# Altium integrated library Linear Technology Power Management Hot Swap Controllers.IntLib: 992 symbols (part 24 of 93)
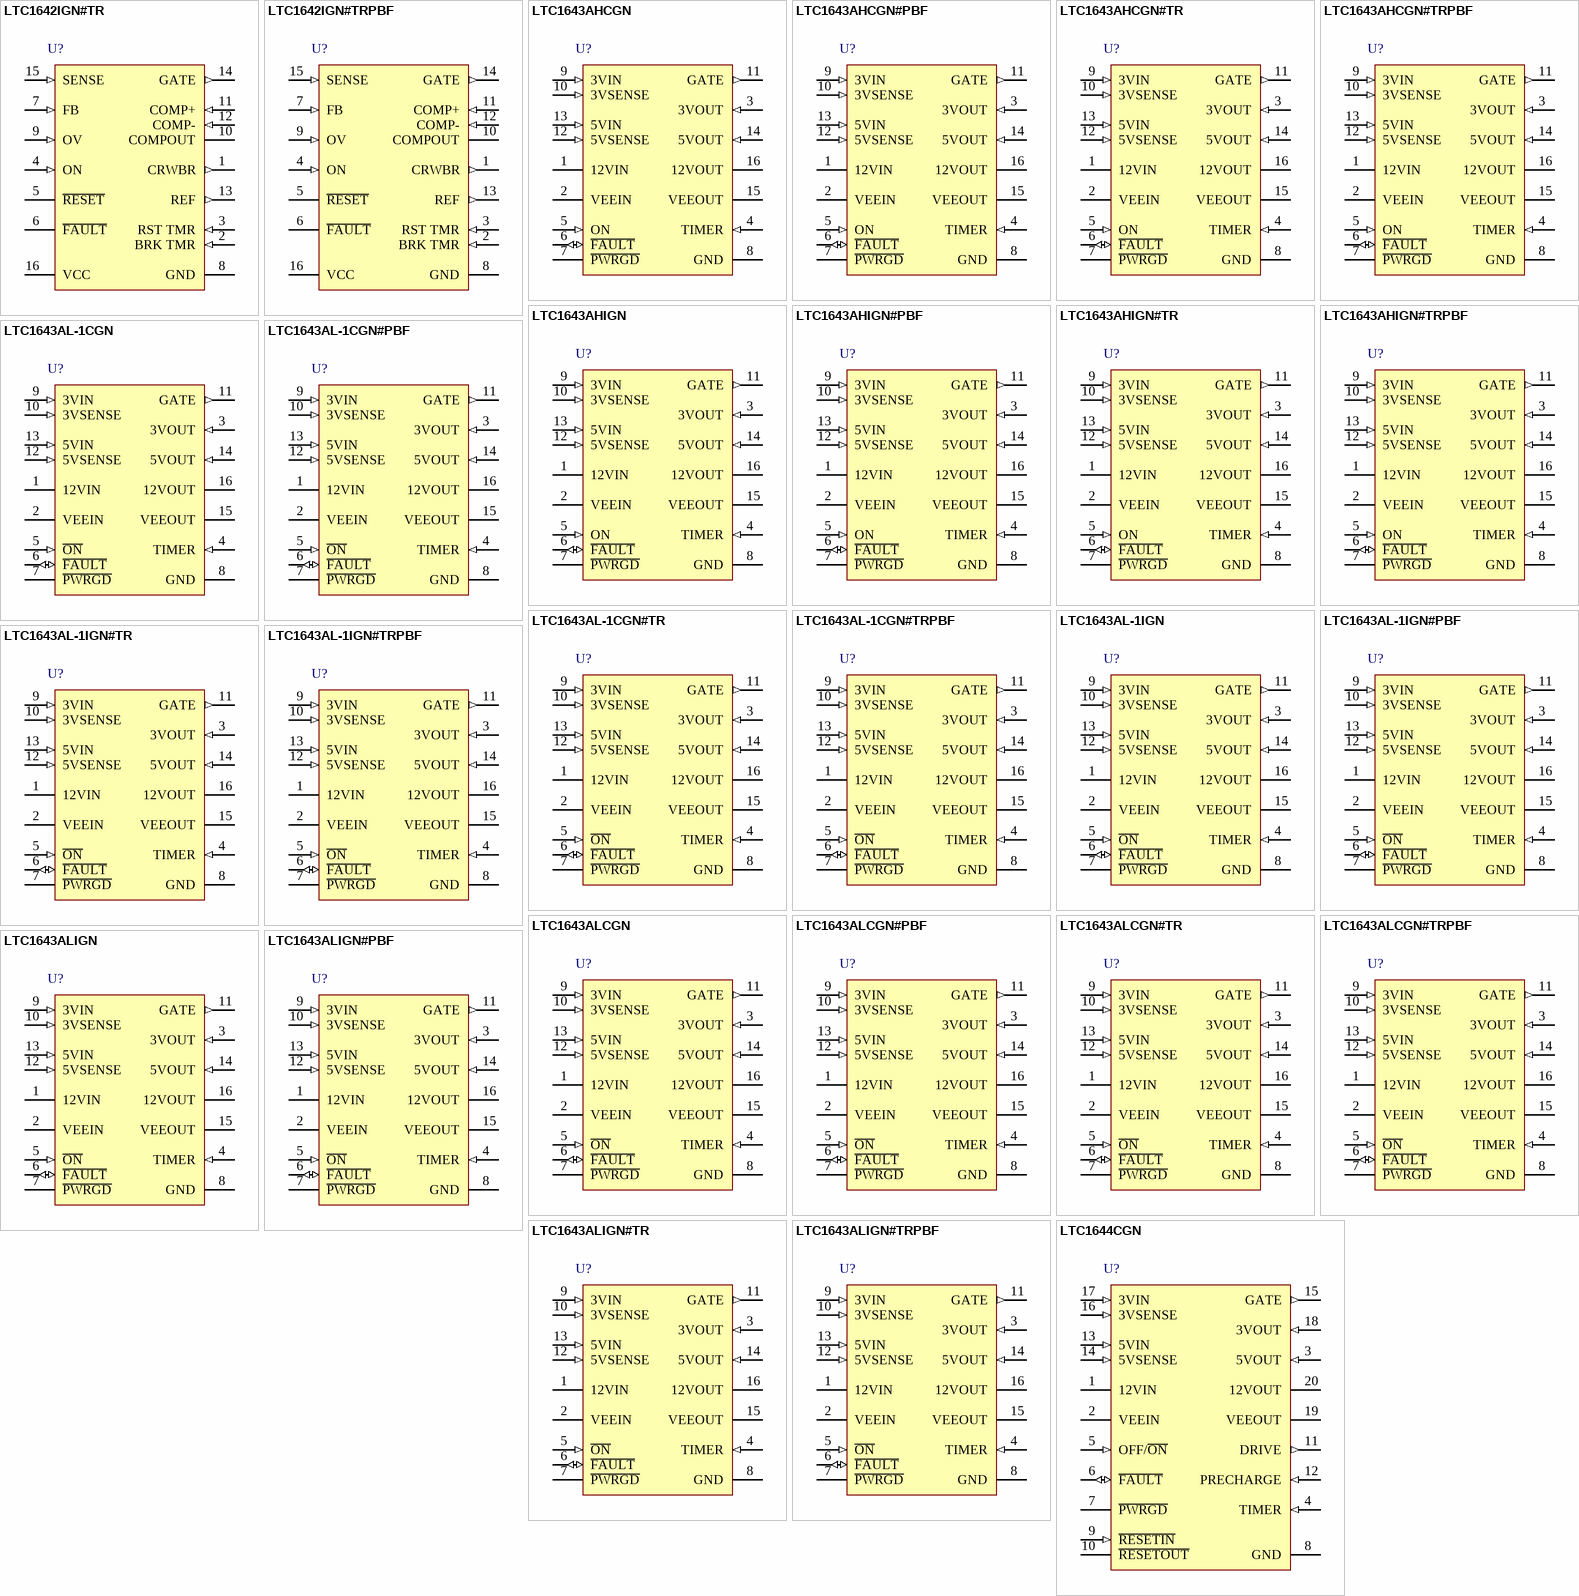
[diagram p60: symbols LTC1642IGN#TR to LTC1644CGN]

## LTC1643ALCGN
designator U?
PCI-Bus Hot Swap Controller, 3.3 V, 5 V, +/-12 V Vin, 16-pin SOP (GN-16), 0 to 70 degC; Manufacturer: Linear Technology; PartNumber: LTC1643ALCGN; Active Limiting: yes; Circuit Breaker Accuracy(%): 24.5; Circuit Breaker Threshold: 53 mV; Circuit Breakers(#): 4; Extended Temp: C, I; Fast Comparator: no; In-Rush Current: Active; DatasheetVersion: Rev. B; PackageVersion: Rev. B, 03/2012; PackageReference: GN-16; PackageDescription: 16-Pin Plastic SSOP, Body 4.9 x 3.9 mm, Pitch 0.635 mm; Supplier 1: Digi-Key; Supplier Part Number 1: LTC1643ALCGN-ND; Fault: yes; Foldback: yes; Power Good: yes; Reset: no; RoHS: FALSE; Vin Range: 3.3 V, 5 V, +/-12 V; Mounting Technology: Surface Mount; ComponentLink1Description: Manufacturer URL; ComponentLink1URL: http://www.linear.com/; ComponentLink2Description: Datasheet; ComponentLink2URL: http://cds.linear.com/docs/en/datasheet/1643afb.pdf; ComponentLink3Description: Package Specification; ComponentLink3URL: http://cds.linear.com/docs/en/packaging/05081641_B_GN16.pdf
footprint LT-GN-16_N (SOP, 16-Leads, Body 5x4mm, Pitch 0.635mm, IPC Medium Density)
footprint LT-GN-16_L (SOP, 16-Leads, Body 5x4mm, Pitch 0.635mm, IPC High Density)
footprint LT-GN-16_M (SOP, 16-Leads, Body 5x4mm, Pitch 0.635mm, IPC Low Density)
pins: 1 12VIN (power) "12V Supply Input. It powers all the chip's internal circuitry. A 0.5ohm switch is connected between 12VIN and 12VOUT with a foldback current limit. An undervoltage lockout circuit prevents the switches from turning o(See Datasheet)", 2 VEEIN (power) "-12V Supply Input. A 1.2ohm switch is connected between VEEIN and VEEOUT with a foldback current limit.", 3 3VOUT (in) "Analog Input. Used to monitor the 3.3V output supply voltage. The P\W\R\G\D\ signal cannot go low until the 3VOUT pin exceeds 2.9V typically.", 4 TIMER (in) "Analog Current Fault Inhibit Timing Input. Connect a capacitor from TIMER to GND. With the chip turned off (ON = GND or O\N\ = High) or the internal circuit breaker tripped (F\A\U\L\T\ = GND), the TIMER pin is internally (See Datasheet)", 5 ~{ON} (in) "Digital Input.The LTC1643AL/LTC1643AL-1 have an active low enable, O\N\, and the LTC1643AH has an active high enable, ON. When the ON pin is pulled high or the O\N\ pin pulled low, the GATE pin is pulled high by a 62uA (See Datasheet)", 6 ~{FAULT} (io) "Open-Drain Digital I/O. F\A\U\L\T\ is pulled low when a current limit fault is detected. Current limit faults are ignored while the voltage at the TIMER pin is less than 12VIN - 0.9V. Once the TIMER cycle is complete, (See Datasheet)", 7 ~{PWRGD} (oc) "Open-Drain Digital Power-Good Output. P\W\R\G\D\ remains low while V12VOUT>= 11.4V, V3VOUT>= 3V, V5VOUT >= 4.75V and VEEOUT =< -10.8V. The LTC1643AL-1 has the power good comparators connected to the 12VOUT and VEEOUT pins (See Datasheet)", 8 GND (power) "Chip Ground.", 9 3VIN (in) "3.3V Supply Sense Input. An undervoltage lockout circuit prevents the switches from turning on when the voltage at the 3VIN pin is less than 2.5V typically. If no 3.3V input supply is available, tie 3VIN to the 5VIN pin.", 10 3VSENSE (in) "The 3.3V Current Limit Set Pin. With a sense resistor placed in the supply path between 3VIN and 3VSENSE, the GATE pin voltage will be adjusted to maintain a constant voltage across the sense resistor and a constant current (See Datasheet)", 11 GATE (out) "High Side Gate Drive for the External N-Channel Pass Transistors. Requires an external series RC network for the current limit loop compensation and setting the minimum ramp-up rate. During power-up, the slope of the voltage (See Datasheet)", 12 5VSENSE (in) "5V Current Limit Set Pin. With a sense resistor placed in the supply path between 5VIN and 5VSENSE, the GATE pin voltage will be adjusted to maintain a constant voltage across the sense resistor and a constant current (See Datasheet)", 13 5VIN (in) "Analog Input. Used to monitor the 5V input supply voltage. An undervoltage lockout circuit prevents the switches from turning on when the voltage at the 5VIN pin is less than 2.5V typically.", 14 5VOUT (in) "Analog Input. Used to monitor the 5V output supply voltage. The P\W\R\G\D\ signal cannot go low until the 5VOUT pin exceeds 4.65V typically.", 15 VEEOUT (power) "-12V Supply Output. A 1.2ohm switch is connected between VEEIN and VEEOUT. VEEOUT must exceed -10.8V before the P\W\R\G\D\ signal can go high on the LTC1643AH and LTC1643AL.", 16 12VOUT (power) "12V Supply Output. A 0.5ohm switch is connected between 12VIN and 12VOUT. 12VOUT must exceed 11.4V before the P\W\R\G\D\ signal can go high on the LTC1643AH and LTC1643AL."

## LTC1643ALCGN#PBF
designator U?
PCI-Bus Hot Swap Controller, 3.3 V, 5 V, +/-12 V Vin, 16-pin SOP (GN-16), 0 to 70 degC, Pb-Free; Manufacturer: Linear Technology; PartNumber: LTC1643ALCGN#PBF; Active Limiting: yes; Circuit Breaker Accuracy(%): 24.5; Circuit Breaker Threshold: 53 mV; Circuit Breakers(#): 4; Extended Temp: C, I; Fast Comparator: no; In-Rush Current: Active; DatasheetVersion: Rev. B; PackageVersion: Rev. B, 03/2012; PackageReference: GN-16; PackageDescription: 16-Pin Plastic SSOP, Body 4.9 x 3.9 mm, Pitch 0.635 mm; Supplier 1: Digi-Key; Supplier Part Number 1: LTC1643ALCGN#PBF-ND; Supplier 2: Farnell; Supplier Part Number 2: 2308569; Supplier 3: Newark; Supplier Part Number 3: 56M2801; Fault: yes; Foldback: yes; Power Good: yes; Reset: no; RoHS: TRUE; Vin Range: 3.3 V, 5 V, +/-12 V; Mounting Technology: Surface Mount; ComponentLink1Description: Manufacturer URL; ComponentLink1URL: http://www.linear.com/; ComponentLink2Description: Datasheet; ComponentLink2URL: http://cds.linear.com/docs/en/datasheet/1643afb.pdf; ComponentLink3Description: Package Specification; ComponentLink3URL: http://cds.linear.com/docs/en/packaging/05081641_B_GN16.pdf
footprint LT-GN-16_N (SOP, 16-Leads, Body 5x4mm, Pitch 0.635mm, IPC Medium Density)
footprint LT-GN-16_L (SOP, 16-Leads, Body 5x4mm, Pitch 0.635mm, IPC High Density)
footprint LT-GN-16_M (SOP, 16-Leads, Body 5x4mm, Pitch 0.635mm, IPC Low Density)
pins: 1 12VIN (power) "12V Supply Input. It powers all the chip's internal circuitry. A 0.5ohm switch is connected between 12VIN and 12VOUT with a foldback current limit. An undervoltage lockout circuit prevents the switches from turning o(See Datasheet)", 2 VEEIN (power) "-12V Supply Input. A 1.2ohm switch is connected between VEEIN and VEEOUT with a foldback current limit.", 3 3VOUT (in) "Analog Input. Used to monitor the 3.3V output supply voltage. The P\W\R\G\D\ signal cannot go low until the 3VOUT pin exceeds 2.9V typically.", 4 TIMER (in) "Analog Current Fault Inhibit Timing Input. Connect a capacitor from TIMER to GND. With the chip turned off (ON = GND or O\N\ = High) or the internal circuit breaker tripped (F\A\U\L\T\ = GND), the TIMER pin is internally (See Datasheet)", 5 ~{ON} (in) "Digital Input.The LTC1643AL/LTC1643AL-1 have an active low enable, O\N\, and the LTC1643AH has an active high enable, ON. When the ON pin is pulled high or the O\N\ pin pulled low, the GATE pin is pulled high by a 62uA (See Datasheet)", 6 ~{FAULT} (io) "Open-Drain Digital I/O. F\A\U\L\T\ is pulled low when a current limit fault is detected. Current limit faults are ignored while the voltage at the TIMER pin is less than 12VIN - 0.9V. Once the TIMER cycle is complete, (See Datasheet)", 7 ~{PWRGD} (oc) "Open-Drain Digital Power-Good Output. P\W\R\G\D\ remains low while V12VOUT>= 11.4V, V3VOUT>= 3V, V5VOUT >= 4.75V and VEEOUT =< -10.8V. The LTC1643AL-1 has the power good comparators connected to the 12VOUT and VEEOUT pins (See Datasheet)", 8 GND (power) "Chip Ground.", 9 3VIN (in) "3.3V Supply Sense Input. An undervoltage lockout circuit prevents the switches from turning on when the voltage at the 3VIN pin is less than 2.5V typically. If no 3.3V input supply is available, tie 3VIN to the 5VIN pin.", 10 3VSENSE (in) "The 3.3V Current Limit Set Pin. With a sense resistor placed in the supply path between 3VIN and 3VSENSE, the GATE pin voltage will be adjusted to maintain a constant voltage across the sense resistor and a constant current (See Datasheet)", 11 GATE (out) "High Side Gate Drive for the External N-Channel Pass Transistors. Requires an external series RC network for the current limit loop compensation and setting the minimum ramp-up rate. During power-up, the slope of the voltage (See Datasheet)", 12 5VSENSE (in) "5V Current Limit Set Pin. With a sense resistor placed in the supply path between 5VIN and 5VSENSE, the GATE pin voltage will be adjusted to maintain a constant voltage across the sense resistor and a constant current (See Datasheet)", 13 5VIN (in) "Analog Input. Used to monitor the 5V input supply voltage. An undervoltage lockout circuit prevents the switches from turning on when the voltage at the 5VIN pin is less than 2.5V typically.", 14 5VOUT (in) "Analog Input. Used to monitor the 5V output supply voltage. The P\W\R\G\D\ signal cannot go low until the 5VOUT pin exceeds 4.65V typically.", 15 VEEOUT (power) "-12V Supply Output. A 1.2ohm switch is connected between VEEIN and VEEOUT. VEEOUT must exceed -10.8V before the P\W\R\G\D\ signal can go high on the LTC1643AH and LTC1643AL.", 16 12VOUT (power) "12V Supply Output. A 0.5ohm switch is connected between 12VIN and 12VOUT. 12VOUT must exceed 11.4V before the P\W\R\G\D\ signal can go high on the LTC1643AH and LTC1643AL."

## LTC1643ALCGN#TR
designator U?
PCI-Bus Hot Swap Controller, 3.3 V, 5 V, +/-12 V Vin, 16-pin SOP (GN-16), 0 to 70 degC, Tape and Reel; Manufacturer: Linear Technology; PartNumber: LTC1643ALCGN#TR; Active Limiting: yes; Circuit Breaker Accuracy(%): 24.5; Circuit Breaker Threshold: 53 mV; Circuit Breakers(#): 4; Extended Temp: C, I; Fast Comparator: no; In-Rush Current: Active; DatasheetVersion: Rev. B; PackageVersion: Rev. B, 03/2012; PackageReference: GN-16; PackageDescription: 16-Pin Plastic SSOP, Body 4.9 x 3.9 mm, Pitch 0.635 mm; Supplier 1: Digi-Key; Supplier Part Number 1: LTC1643ALCGN#TR-ND; Fault: yes; Foldback: yes; Packing: Tape and Reel; Power Good: yes; Reset: no; RoHS: FALSE; Vin Range: 3.3 V, 5 V, +/-12 V; Mounting Technology: Surface Mount; ComponentLink1Description: Manufacturer URL; ComponentLink1URL: http://www.linear.com/; ComponentLink2Description: Datasheet; ComponentLink2URL: http://cds.linear.com/docs/en/datasheet/1643afb.pdf; ComponentLink3Description: Package Specification; ComponentLink3URL: http://cds.linear.com/docs/en/packaging/05081641_B_GN16.pdf
footprint LT-GN-16_N (SOP, 16-Leads, Body 5x4mm, Pitch 0.635mm, IPC Medium Density)
footprint LT-GN-16_L (SOP, 16-Leads, Body 5x4mm, Pitch 0.635mm, IPC High Density)
footprint LT-GN-16_M (SOP, 16-Leads, Body 5x4mm, Pitch 0.635mm, IPC Low Density)
pins: 1 12VIN (power) "12V Supply Input. It powers all the chip's internal circuitry. A 0.5ohm switch is connected between 12VIN and 12VOUT with a foldback current limit. An undervoltage lockout circuit prevents the switches from turning o(See Datasheet)", 2 VEEIN (power) "-12V Supply Input. A 1.2ohm switch is connected between VEEIN and VEEOUT with a foldback current limit.", 3 3VOUT (in) "Analog Input. Used to monitor the 3.3V output supply voltage. The P\W\R\G\D\ signal cannot go low until the 3VOUT pin exceeds 2.9V typically.", 4 TIMER (in) "Analog Current Fault Inhibit Timing Input. Connect a capacitor from TIMER to GND. With the chip turned off (ON = GND or O\N\ = High) or the internal circuit breaker tripped (F\A\U\L\T\ = GND), the TIMER pin is internally (See Datasheet)", 5 ~{ON} (in) "Digital Input.The LTC1643AL/LTC1643AL-1 have an active low enable, O\N\, and the LTC1643AH has an active high enable, ON. When the ON pin is pulled high or the O\N\ pin pulled low, the GATE pin is pulled high by a 62uA (See Datasheet)", 6 ~{FAULT} (io) "Open-Drain Digital I/O. F\A\U\L\T\ is pulled low when a current limit fault is detected. Current limit faults are ignored while the voltage at the TIMER pin is less than 12VIN - 0.9V. Once the TIMER cycle is complete, (See Datasheet)", 7 ~{PWRGD} (oc) "Open-Drain Digital Power-Good Output. P\W\R\G\D\ remains low while V12VOUT>= 11.4V, V3VOUT>= 3V, V5VOUT >= 4.75V and VEEOUT =< -10.8V. The LTC1643AL-1 has the power good comparators connected to the 12VOUT and VEEOUT pins (See Datasheet)", 8 GND (power) "Chip Ground.", 9 3VIN (in) "3.3V Supply Sense Input. An undervoltage lockout circuit prevents the switches from turning on when the voltage at the 3VIN pin is less than 2.5V typically. If no 3.3V input supply is available, tie 3VIN to the 5VIN pin.", 10 3VSENSE (in) "The 3.3V Current Limit Set Pin. With a sense resistor placed in the supply path between 3VIN and 3VSENSE, the GATE pin voltage will be adjusted to maintain a constant voltage across the sense resistor and a constant current (See Datasheet)", 11 GATE (out) "High Side Gate Drive for the External N-Channel Pass Transistors. Requires an external series RC network for the current limit loop compensation and setting the minimum ramp-up rate. During power-up, the slope of the voltage (See Datasheet)", 12 5VSENSE (in) "5V Current Limit Set Pin. With a sense resistor placed in the supply path between 5VIN and 5VSENSE, the GATE pin voltage will be adjusted to maintain a constant voltage across the sense resistor and a constant current (See Datasheet)", 13 5VIN (in) "Analog Input. Used to monitor the 5V input supply voltage. An undervoltage lockout circuit prevents the switches from turning on when the voltage at the 5VIN pin is less than 2.5V typically.", 14 5VOUT (in) "Analog Input. Used to monitor the 5V output supply voltage. The P\W\R\G\D\ signal cannot go low until the 5VOUT pin exceeds 4.65V typically.", 15 VEEOUT (power) "-12V Supply Output. A 1.2ohm switch is connected between VEEIN and VEEOUT. VEEOUT must exceed -10.8V before the P\W\R\G\D\ signal can go high on the LTC1643AH and LTC1643AL.", 16 12VOUT (power) "12V Supply Output. A 0.5ohm switch is connected between 12VIN and 12VOUT. 12VOUT must exceed 11.4V before the P\W\R\G\D\ signal can go high on the LTC1643AH and LTC1643AL."

## LTC1643ALCGN#TRPBF
designator U?
PCI-Bus Hot Swap Controller, 3.3 V, 5 V, +/-12 V Vin, 16-pin SOP (GN-16), 0 to 70 degC, Pb-Free, Tape and Reel; Manufacturer: Linear Technology; PartNumber: LTC1643ALCGN#TRPBF; Active Limiting: yes; Circuit Breaker Accuracy(%): 24.5; Circuit Breaker Threshold: 53 mV; Circuit Breakers(#): 4; Extended Temp: C, I; Fast Comparator: no; In-Rush Current: Active; DatasheetVersion: Rev. B; PackageVersion: Rev. B, 03/2012; PackageReference: GN-16; PackageDescription: 16-Pin Plastic SSOP, Body 4.9 x 3.9 mm, Pitch 0.635 mm; Supplier 1: Digi-Key; Supplier Part Number 1: LTC1643ALCGN#TRPBF-ND; Fault: yes; Foldback: yes; Packing: Tape and Reel; Power Good: yes; Reset: no; RoHS: TRUE; Vin Range: 3.3 V, 5 V, +/-12 V; Mounting Technology: Surface Mount; ComponentLink1Description: Manufacturer URL; ComponentLink1URL: http://www.linear.com/; ComponentLink2Description: Datasheet; ComponentLink2URL: http://cds.linear.com/docs/en/datasheet/1643afb.pdf; ComponentLink3Description: Package Specification; ComponentLink3URL: http://cds.linear.com/docs/en/packaging/05081641_B_GN16.pdf
footprint LT-GN-16_N (SOP, 16-Leads, Body 5x4mm, Pitch 0.635mm, IPC Medium Density)
footprint LT-GN-16_L (SOP, 16-Leads, Body 5x4mm, Pitch 0.635mm, IPC High Density)
footprint LT-GN-16_M (SOP, 16-Leads, Body 5x4mm, Pitch 0.635mm, IPC Low Density)
pins: 1 12VIN (power) "12V Supply Input. It powers all the chip's internal circuitry. A 0.5ohm switch is connected between 12VIN and 12VOUT with a foldback current limit. An undervoltage lockout circuit prevents the switches from turning o(See Datasheet)", 2 VEEIN (power) "-12V Supply Input. A 1.2ohm switch is connected between VEEIN and VEEOUT with a foldback current limit.", 3 3VOUT (in) "Analog Input. Used to monitor the 3.3V output supply voltage. The P\W\R\G\D\ signal cannot go low until the 3VOUT pin exceeds 2.9V typically.", 4 TIMER (in) "Analog Current Fault Inhibit Timing Input. Connect a capacitor from TIMER to GND. With the chip turned off (ON = GND or O\N\ = High) or the internal circuit breaker tripped (F\A\U\L\T\ = GND), the TIMER pin is internally (See Datasheet)", 5 ~{ON} (in) "Digital Input.The LTC1643AL/LTC1643AL-1 have an active low enable, O\N\, and the LTC1643AH has an active high enable, ON. When the ON pin is pulled high or the O\N\ pin pulled low, the GATE pin is pulled high by a 62uA (See Datasheet)", 6 ~{FAULT} (io) "Open-Drain Digital I/O. F\A\U\L\T\ is pulled low when a current limit fault is detected. Current limit faults are ignored while the voltage at the TIMER pin is less than 12VIN - 0.9V. Once the TIMER cycle is complete, (See Datasheet)", 7 ~{PWRGD} (oc) "Open-Drain Digital Power-Good Output. P\W\R\G\D\ remains low while V12VOUT>= 11.4V, V3VOUT>= 3V, V5VOUT >= 4.75V and VEEOUT =< -10.8V. The LTC1643AL-1 has the power good comparators connected to the 12VOUT and VEEOUT pins (See Datasheet)", 8 GND (power) "Chip Ground.", 9 3VIN (in) "3.3V Supply Sense Input. An undervoltage lockout circuit prevents the switches from turning on when the voltage at the 3VIN pin is less than 2.5V typically. If no 3.3V input supply is available, tie 3VIN to the 5VIN pin.", 10 3VSENSE (in) "The 3.3V Current Limit Set Pin. With a sense resistor placed in the supply path between 3VIN and 3VSENSE, the GATE pin voltage will be adjusted to maintain a constant voltage across the sense resistor and a constant current (See Datasheet)", 11 GATE (out) "High Side Gate Drive for the External N-Channel Pass Transistors. Requires an external series RC network for the current limit loop compensation and setting the minimum ramp-up rate. During power-up, the slope of the voltage (See Datasheet)", 12 5VSENSE (in) "5V Current Limit Set Pin. With a sense resistor placed in the supply path between 5VIN and 5VSENSE, the GATE pin voltage will be adjusted to maintain a constant voltage across the sense resistor and a constant current (See Datasheet)", 13 5VIN (in) "Analog Input. Used to monitor the 5V input supply voltage. An undervoltage lockout circuit prevents the switches from turning on when the voltage at the 5VIN pin is less than 2.5V typically.", 14 5VOUT (in) "Analog Input. Used to monitor the 5V output supply voltage. The P\W\R\G\D\ signal cannot go low until the 5VOUT pin exceeds 4.65V typically.", 15 VEEOUT (power) "-12V Supply Output. A 1.2ohm switch is connected between VEEIN and VEEOUT. VEEOUT must exceed -10.8V before the P\W\R\G\D\ signal can go high on the LTC1643AH and LTC1643AL.", 16 12VOUT (power) "12V Supply Output. A 0.5ohm switch is connected between 12VIN and 12VOUT. 12VOUT must exceed 11.4V before the P\W\R\G\D\ signal can go high on the LTC1643AH and LTC1643AL."

## LTC1643ALIGN
designator U?
PCI-Bus Hot Swap Controller, 3.3 V, 5 V, +/-12 V Vin, 16-pin SOP (GN-16), -40 to 85 degC; Manufacturer: Linear Technology; PartNumber: LTC1643ALIGN; Active Limiting: yes; Circuit Breaker Accuracy(%): 24.5; Circuit Breaker Threshold: 53 mV; Circuit Breakers(#): 4; Extended Temp: C, I; Fast Comparator: no; In-Rush Current: Active; DatasheetVersion: Rev. B; PackageVersion: Rev. B, 03/2012; PackageReference: GN-16; PackageDescription: 16-Pin Plastic SSOP, Body 4.9 x 3.9 mm, Pitch 0.635 mm; Supplier 1: Digi-Key; Supplier Part Number 1: LTC1643ALIGN-ND; Fault: yes; Foldback: yes; Power Good: yes; Reset: no; RoHS: FALSE; Vin Range: 3.3 V, 5 V, +/-12 V; Mounting Technology: Surface Mount; ComponentLink1Description: Manufacturer URL; ComponentLink1URL: http://www.linear.com/; ComponentLink2Description: Datasheet; ComponentLink2URL: http://cds.linear.com/docs/en/datasheet/1643afb.pdf; ComponentLink3Description: Package Specification; ComponentLink3URL: http://cds.linear.com/docs/en/packaging/05081641_B_GN16.pdf
footprint LT-GN-16_N (SOP, 16-Leads, Body 5x4mm, Pitch 0.635mm, IPC Medium Density)
footprint LT-GN-16_L (SOP, 16-Leads, Body 5x4mm, Pitch 0.635mm, IPC High Density)
footprint LT-GN-16_M (SOP, 16-Leads, Body 5x4mm, Pitch 0.635mm, IPC Low Density)
pins: 1 12VIN (power) "12V Supply Input. It powers all the chip's internal circuitry. A 0.5ohm switch is connected between 12VIN and 12VOUT with a foldback current limit. An undervoltage lockout circuit prevents the switches from turning o(See Datasheet)", 2 VEEIN (power) "-12V Supply Input. A 1.2ohm switch is connected between VEEIN and VEEOUT with a foldback current limit.", 3 3VOUT (in) "Analog Input. Used to monitor the 3.3V output supply voltage. The P\W\R\G\D\ signal cannot go low until the 3VOUT pin exceeds 2.9V typically.", 4 TIMER (in) "Analog Current Fault Inhibit Timing Input. Connect a capacitor from TIMER to GND. With the chip turned off (ON = GND or O\N\ = High) or the internal circuit breaker tripped (F\A\U\L\T\ = GND), the TIMER pin is internally (See Datasheet)", 5 ~{ON} (in) "Digital Input.The LTC1643AL/LTC1643AL-1 have an active low enable, O\N\, and the LTC1643AH has an active high enable, ON. When the ON pin is pulled high or the O\N\ pin pulled low, the GATE pin is pulled high by a 62uA (See Datasheet)", 6 ~{FAULT} (io) "Open-Drain Digital I/O. F\A\U\L\T\ is pulled low when a current limit fault is detected. Current limit faults are ignored while the voltage at the TIMER pin is less than 12VIN - 0.9V. Once the TIMER cycle is complete, (See Datasheet)", 7 ~{PWRGD} (oc) "Open-Drain Digital Power-Good Output. P\W\R\G\D\ remains low while V12VOUT>= 11.4V, V3VOUT>= 3V, V5VOUT >= 4.75V and VEEOUT =< -10.8V. The LTC1643AL-1 has the power good comparators connected to the 12VOUT and VEEOUT pins (See Datasheet)", 8 GND (power) "Chip Ground.", 9 3VIN (in) "3.3V Supply Sense Input. An undervoltage lockout circuit prevents the switches from turning on when the voltage at the 3VIN pin is less than 2.5V typically. If no 3.3V input supply is available, tie 3VIN to the 5VIN pin.", 10 3VSENSE (in) "The 3.3V Current Limit Set Pin. With a sense resistor placed in the supply path between 3VIN and 3VSENSE, the GATE pin voltage will be adjusted to maintain a constant voltage across the sense resistor and a constant current (See Datasheet)", 11 GATE (out) "High Side Gate Drive for the External N-Channel Pass Transistors. Requires an external series RC network for the current limit loop compensation and setting the minimum ramp-up rate. During power-up, the slope of the voltage (See Datasheet)", 12 5VSENSE (in) "5V Current Limit Set Pin. With a sense resistor placed in the supply path between 5VIN and 5VSENSE, the GATE pin voltage will be adjusted to maintain a constant voltage across the sense resistor and a constant current (See Datasheet)", 13 5VIN (in) "Analog Input. Used to monitor the 5V input supply voltage. An undervoltage lockout circuit prevents the switches from turning on when the voltage at the 5VIN pin is less than 2.5V typically.", 14 5VOUT (in) "Analog Input. Used to monitor the 5V output supply voltage. The P\W\R\G\D\ signal cannot go low until the 5VOUT pin exceeds 4.65V typically.", 15 VEEOUT (power) "-12V Supply Output. A 1.2ohm switch is connected between VEEIN and VEEOUT. VEEOUT must exceed -10.8V before the P\W\R\G\D\ signal can go high on the LTC1643AH and LTC1643AL.", 16 12VOUT (power) "12V Supply Output. A 0.5ohm switch is connected between 12VIN and 12VOUT. 12VOUT must exceed 11.4V before the P\W\R\G\D\ signal can go high on the LTC1643AH and LTC1643AL."

## LTC1643ALIGN#PBF
designator U?
PCI-Bus Hot Swap Controller, 3.3 V, 5 V, +/-12 V Vin, 16-pin SOP (GN-16), -40 to 85 degC, Pb-Free; Manufacturer: Linear Technology; PartNumber: LTC1643ALIGN#PBF; Active Limiting: yes; Circuit Breaker Accuracy(%): 24.5; Circuit Breaker Threshold: 53 mV; Circuit Breakers(#): 4; Extended Temp: C, I; Fast Comparator: no; In-Rush Current: Active; DatasheetVersion: Rev. B; PackageVersion: Rev. B, 03/2012; PackageReference: GN-16; PackageDescription: 16-Pin Plastic SSOP, Body 4.9 x 3.9 mm, Pitch 0.635 mm; Supplier 1: Digi-Key; Supplier Part Number 1: LTC1643ALIGN#PBF-ND; Fault: yes; Foldback: yes; Power Good: yes; Reset: no; RoHS: TRUE; Vin Range: 3.3 V, 5 V, +/-12 V; Mounting Technology: Surface Mount; ComponentLink1Description: Manufacturer URL; ComponentLink1URL: http://www.linear.com/; ComponentLink2Description: Datasheet; ComponentLink2URL: http://cds.linear.com/docs/en/datasheet/1643afb.pdf; ComponentLink3Description: Package Specification; ComponentLink3URL: http://cds.linear.com/docs/en/packaging/05081641_B_GN16.pdf
footprint LT-GN-16_N (SOP, 16-Leads, Body 5x4mm, Pitch 0.635mm, IPC Medium Density)
footprint LT-GN-16_L (SOP, 16-Leads, Body 5x4mm, Pitch 0.635mm, IPC High Density)
footprint LT-GN-16_M (SOP, 16-Leads, Body 5x4mm, Pitch 0.635mm, IPC Low Density)
pins: 1 12VIN (power) "12V Supply Input. It powers all the chip's internal circuitry. A 0.5ohm switch is connected between 12VIN and 12VOUT with a foldback current limit. An undervoltage lockout circuit prevents the switches from turning o(See Datasheet)", 2 VEEIN (power) "-12V Supply Input. A 1.2ohm switch is connected between VEEIN and VEEOUT with a foldback current limit.", 3 3VOUT (in) "Analog Input. Used to monitor the 3.3V output supply voltage. The P\W\R\G\D\ signal cannot go low until the 3VOUT pin exceeds 2.9V typically.", 4 TIMER (in) "Analog Current Fault Inhibit Timing Input. Connect a capacitor from TIMER to GND. With the chip turned off (ON = GND or O\N\ = High) or the internal circuit breaker tripped (F\A\U\L\T\ = GND), the TIMER pin is internally (See Datasheet)", 5 ~{ON} (in) "Digital Input.The LTC1643AL/LTC1643AL-1 have an active low enable, O\N\, and the LTC1643AH has an active high enable, ON. When the ON pin is pulled high or the O\N\ pin pulled low, the GATE pin is pulled high by a 62uA (See Datasheet)", 6 ~{FAULT} (io) "Open-Drain Digital I/O. F\A\U\L\T\ is pulled low when a current limit fault is detected. Current limit faults are ignored while the voltage at the TIMER pin is less than 12VIN - 0.9V. Once the TIMER cycle is complete, (See Datasheet)", 7 ~{PWRGD} (oc) "Open-Drain Digital Power-Good Output. P\W\R\G\D\ remains low while V12VOUT>= 11.4V, V3VOUT>= 3V, V5VOUT >= 4.75V and VEEOUT =< -10.8V. The LTC1643AL-1 has the power good comparators connected to the 12VOUT and VEEOUT pins (See Datasheet)", 8 GND (power) "Chip Ground.", 9 3VIN (in) "3.3V Supply Sense Input. An undervoltage lockout circuit prevents the switches from turning on when the voltage at the 3VIN pin is less than 2.5V typically. If no 3.3V input supply is available, tie 3VIN to the 5VIN pin.", 10 3VSENSE (in) "The 3.3V Current Limit Set Pin. With a sense resistor placed in the supply path between 3VIN and 3VSENSE, the GATE pin voltage will be adjusted to maintain a constant voltage across the sense resistor and a constant current (See Datasheet)", 11 GATE (out) "High Side Gate Drive for the External N-Channel Pass Transistors. Requires an external series RC network for the current limit loop compensation and setting the minimum ramp-up rate. During power-up, the slope of the voltage (See Datasheet)", 12 5VSENSE (in) "5V Current Limit Set Pin. With a sense resistor placed in the supply path between 5VIN and 5VSENSE, the GATE pin voltage will be adjusted to maintain a constant voltage across the sense resistor and a constant current (See Datasheet)", 13 5VIN (in) "Analog Input. Used to monitor the 5V input supply voltage. An undervoltage lockout circuit prevents the switches from turning on when the voltage at the 5VIN pin is less than 2.5V typically.", 14 5VOUT (in) "Analog Input. Used to monitor the 5V output supply voltage. The P\W\R\G\D\ signal cannot go low until the 5VOUT pin exceeds 4.65V typically.", 15 VEEOUT (power) "-12V Supply Output. A 1.2ohm switch is connected between VEEIN and VEEOUT. VEEOUT must exceed -10.8V before the P\W\R\G\D\ signal can go high on the LTC1643AH and LTC1643AL.", 16 12VOUT (power) "12V Supply Output. A 0.5ohm switch is connected between 12VIN and 12VOUT. 12VOUT must exceed 11.4V before the P\W\R\G\D\ signal can go high on the LTC1643AH and LTC1643AL."

## LTC1643ALIGN#TR
designator U?
PCI-Bus Hot Swap Controller, 3.3 V, 5 V, +/-12 V Vin, 16-pin SOP (GN-16), -40 to 85 degC, Tape and Reel; Manufacturer: Linear Technology; PartNumber: LTC1643ALIGN#TR; Active Limiting: yes; Circuit Breaker Accuracy(%): 24.5; Circuit Breaker Threshold: 53 mV; Circuit Breakers(#): 4; Extended Temp: C, I; Fast Comparator: no; In-Rush Current: Active; DatasheetVersion: Rev. B; PackageVersion: Rev. B, 03/2012; PackageReference: GN-16; PackageDescription: 16-Pin Plastic SSOP, Body 4.9 x 3.9 mm, Pitch 0.635 mm; Supplier 1: Digi-Key; Supplier Part Number 1: LTC1643ALIGN#TR-ND; Fault: yes; Foldback: yes; Packing: Tape and Reel; Power Good: yes; Reset: no; RoHS: FALSE; Vin Range: 3.3 V, 5 V, +/-12 V; Mounting Technology: Surface Mount; ComponentLink1Description: Manufacturer URL; ComponentLink1URL: http://www.linear.com/; ComponentLink2Description: Datasheet; ComponentLink2URL: http://cds.linear.com/docs/en/datasheet/1643afb.pdf; ComponentLink3Description: Package Specification; ComponentLink3URL: http://cds.linear.com/docs/en/packaging/05081641_B_GN16.pdf
footprint LT-GN-16_N (SOP, 16-Leads, Body 5x4mm, Pitch 0.635mm, IPC Medium Density)
footprint LT-GN-16_L (SOP, 16-Leads, Body 5x4mm, Pitch 0.635mm, IPC High Density)
footprint LT-GN-16_M (SOP, 16-Leads, Body 5x4mm, Pitch 0.635mm, IPC Low Density)
pins: 1 12VIN (power) "12V Supply Input. It powers all the chip's internal circuitry. A 0.5ohm switch is connected between 12VIN and 12VOUT with a foldback current limit. An undervoltage lockout circuit prevents the switches from turning o(See Datasheet)", 2 VEEIN (power) "-12V Supply Input. A 1.2ohm switch is connected between VEEIN and VEEOUT with a foldback current limit.", 3 3VOUT (in) "Analog Input. Used to monitor the 3.3V output supply voltage. The P\W\R\G\D\ signal cannot go low until the 3VOUT pin exceeds 2.9V typically.", 4 TIMER (in) "Analog Current Fault Inhibit Timing Input. Connect a capacitor from TIMER to GND. With the chip turned off (ON = GND or O\N\ = High) or the internal circuit breaker tripped (F\A\U\L\T\ = GND), the TIMER pin is internally (See Datasheet)", 5 ~{ON} (in) "Digital Input.The LTC1643AL/LTC1643AL-1 have an active low enable, O\N\, and the LTC1643AH has an active high enable, ON. When the ON pin is pulled high or the O\N\ pin pulled low, the GATE pin is pulled high by a 62uA (See Datasheet)", 6 ~{FAULT} (io) "Open-Drain Digital I/O. F\A\U\L\T\ is pulled low when a current limit fault is detected. Current limit faults are ignored while the voltage at the TIMER pin is less than 12VIN - 0.9V. Once the TIMER cycle is complete, (See Datasheet)", 7 ~{PWRGD} (oc) "Open-Drain Digital Power-Good Output. P\W\R\G\D\ remains low while V12VOUT>= 11.4V, V3VOUT>= 3V, V5VOUT >= 4.75V and VEEOUT =< -10.8V. The LTC1643AL-1 has the power good comparators connected to the 12VOUT and VEEOUT pins (See Datasheet)", 8 GND (power) "Chip Ground.", 9 3VIN (in) "3.3V Supply Sense Input. An undervoltage lockout circuit prevents the switches from turning on when the voltage at the 3VIN pin is less than 2.5V typically. If no 3.3V input supply is available, tie 3VIN to the 5VIN pin.", 10 3VSENSE (in) "The 3.3V Current Limit Set Pin. With a sense resistor placed in the supply path between 3VIN and 3VSENSE, the GATE pin voltage will be adjusted to maintain a constant voltage across the sense resistor and a constant current (See Datasheet)", 11 GATE (out) "High Side Gate Drive for the External N-Channel Pass Transistors. Requires an external series RC network for the current limit loop compensation and setting the minimum ramp-up rate. During power-up, the slope of the voltage (See Datasheet)", 12 5VSENSE (in) "5V Current Limit Set Pin. With a sense resistor placed in the supply path between 5VIN and 5VSENSE, the GATE pin voltage will be adjusted to maintain a constant voltage across the sense resistor and a constant current (See Datasheet)", 13 5VIN (in) "Analog Input. Used to monitor the 5V input supply voltage. An undervoltage lockout circuit prevents the switches from turning on when the voltage at the 5VIN pin is less than 2.5V typically.", 14 5VOUT (in) "Analog Input. Used to monitor the 5V output supply voltage. The P\W\R\G\D\ signal cannot go low until the 5VOUT pin exceeds 4.65V typically.", 15 VEEOUT (power) "-12V Supply Output. A 1.2ohm switch is connected between VEEIN and VEEOUT. VEEOUT must exceed -10.8V before the P\W\R\G\D\ signal can go high on the LTC1643AH and LTC1643AL.", 16 12VOUT (power) "12V Supply Output. A 0.5ohm switch is connected between 12VIN and 12VOUT. 12VOUT must exceed 11.4V before the P\W\R\G\D\ signal can go high on the LTC1643AH and LTC1643AL."

## LTC1643ALIGN#TRPBF
designator U?
PCI-Bus Hot Swap Controller, 3.3 V, 5 V, +/-12 V Vin, 16-pin SOP (GN-16), -40 to 85 degC, Pb-Free, Tape and Reel; Manufacturer: Linear Technology; PartNumber: LTC1643ALIGN#TRPBF; Active Limiting: yes; Circuit Breaker Accuracy(%): 24.5; Circuit Breaker Threshold: 53 mV; Circuit Breakers(#): 4; Extended Temp: C, I; Fast Comparator: no; In-Rush Current: Active; DatasheetVersion: Rev. B; PackageVersion: Rev. B, 03/2012; PackageReference: GN-16; PackageDescription: 16-Pin Plastic SSOP, Body 4.9 x 3.9 mm, Pitch 0.635 mm; Supplier 1: Digi-Key; Supplier Part Number 1: LTC1643ALIGN#TRPBF-ND; Fault: yes; Foldback: yes; Packing: Tape and Reel; Power Good: yes; Reset: no; RoHS: TRUE; Vin Range: 3.3 V, 5 V, +/-12 V; Mounting Technology: Surface Mount; ComponentLink1Description: Manufacturer URL; ComponentLink1URL: http://www.linear.com/; ComponentLink2Description: Datasheet; ComponentLink2URL: http://cds.linear.com/docs/en/datasheet/1643afb.pdf; ComponentLink3Description: Package Specification; ComponentLink3URL: http://cds.linear.com/docs/en/packaging/05081641_B_GN16.pdf
footprint LT-GN-16_N (SOP, 16-Leads, Body 5x4mm, Pitch 0.635mm, IPC Medium Density)
footprint LT-GN-16_L (SOP, 16-Leads, Body 5x4mm, Pitch 0.635mm, IPC High Density)
footprint LT-GN-16_M (SOP, 16-Leads, Body 5x4mm, Pitch 0.635mm, IPC Low Density)
pins: 1 12VIN (power) "12V Supply Input. It powers all the chip's internal circuitry. A 0.5ohm switch is connected between 12VIN and 12VOUT with a foldback current limit. An undervoltage lockout circuit prevents the switches from turning o(See Datasheet)", 2 VEEIN (power) "-12V Supply Input. A 1.2ohm switch is connected between VEEIN and VEEOUT with a foldback current limit.", 3 3VOUT (in) "Analog Input. Used to monitor the 3.3V output supply voltage. The P\W\R\G\D\ signal cannot go low until the 3VOUT pin exceeds 2.9V typically.", 4 TIMER (in) "Analog Current Fault Inhibit Timing Input. Connect a capacitor from TIMER to GND. With the chip turned off (ON = GND or O\N\ = High) or the internal circuit breaker tripped (F\A\U\L\T\ = GND), the TIMER pin is internally (See Datasheet)", 5 ~{ON} (in) "Digital Input.The LTC1643AL/LTC1643AL-1 have an active low enable, O\N\, and the LTC1643AH has an active high enable, ON. When the ON pin is pulled high or the O\N\ pin pulled low, the GATE pin is pulled high by a 62uA (See Datasheet)", 6 ~{FAULT} (io) "Open-Drain Digital I/O. F\A\U\L\T\ is pulled low when a current limit fault is detected. Current limit faults are ignored while the voltage at the TIMER pin is less than 12VIN - 0.9V. Once the TIMER cycle is complete, (See Datasheet)", 7 ~{PWRGD} (oc) "Open-Drain Digital Power-Good Output. P\W\R\G\D\ remains low while V12VOUT>= 11.4V, V3VOUT>= 3V, V5VOUT >= 4.75V and VEEOUT =< -10.8V. The LTC1643AL-1 has the power good comparators connected to the 12VOUT and VEEOUT pins (See Datasheet)", 8 GND (power) "Chip Ground.", 9 3VIN (in) "3.3V Supply Sense Input. An undervoltage lockout circuit prevents the switches from turning on when the voltage at the 3VIN pin is less than 2.5V typically. If no 3.3V input supply is available, tie 3VIN to the 5VIN pin.", 10 3VSENSE (in) "The 3.3V Current Limit Set Pin. With a sense resistor placed in the supply path between 3VIN and 3VSENSE, the GATE pin voltage will be adjusted to maintain a constant voltage across the sense resistor and a constant current (See Datasheet)", 11 GATE (out) "High Side Gate Drive for the External N-Channel Pass Transistors. Requires an external series RC network for the current limit loop compensation and setting the minimum ramp-up rate. During power-up, the slope of the voltage (See Datasheet)", 12 5VSENSE (in) "5V Current Limit Set Pin. With a sense resistor placed in the supply path between 5VIN and 5VSENSE, the GATE pin voltage will be adjusted to maintain a constant voltage across the sense resistor and a constant current (See Datasheet)", 13 5VIN (in) "Analog Input. Used to monitor the 5V input supply voltage. An undervoltage lockout circuit prevents the switches from turning on when the voltage at the 5VIN pin is less than 2.5V typically.", 14 5VOUT (in) "Analog Input. Used to monitor the 5V output supply voltage. The P\W\R\G\D\ signal cannot go low until the 5VOUT pin exceeds 4.65V typically.", 15 VEEOUT (power) "-12V Supply Output. A 1.2ohm switch is connected between VEEIN and VEEOUT. VEEOUT must exceed -10.8V before the P\W\R\G\D\ signal can go high on the LTC1643AH and LTC1643AL.", 16 12VOUT (power) "12V Supply Output. A 0.5ohm switch is connected between 12VIN and 12VOUT. 12VOUT must exceed 11.4V before the P\W\R\G\D\ signal can go high on the LTC1643AH and LTC1643AL."

## LTC1644CGN
designator U?
CompactPCI Bus Hot Swap Controller, 3.3 V, 5 V, +/-12 V Vin, 20-pin SOP (GN-20), 0 to 70 degC; Manufacturer: Linear Technology; PartNumber: LTC1644CGN; Active Limiting: yes; Circuit Breaker Accuracy(%): 27; Circuit Breaker Threshold: 55 mV; Circuit Breakers(#): 4; Extended Temp: C, I; Fast Comparator: no; In-Rush Current: Active; PackageVersion: Rev. B, 03/2012; PackageReference: GN-20; PackageDescription: 20-Pin Plastic SSOP, Body 8.649 x 3.899 mm, Pitch 0.635 mm; Supplier 1: Digi-Key; Supplier Part Number 1: LTC1644CGN-ND; Fault: yes; Foldback: yes; Power Good: yes; Reset: no; RoHS: FALSE; Vin Range: 3.3 V, 5 V, +/-12 V; Mounting Technology: Surface Mount; ComponentLink1Description: Manufacturer URL; ComponentLink1URL: http://www.linear.com/; ComponentLink2Description: Datasheet; ComponentLink2URL: http://cds.linear.com/docs/en/datasheet/1644f.pdf; ComponentLink3Description: Package Specification; ComponentLink3URL: http://cds.linear.com/docs/en/packaging/05081641_B_GN20.pdf
footprint LT-GN-20_N (SOP, 20-Leads, Body 8.7x4mm, Pitch 0.635mm, IPC Medium Density)
footprint LT-GN-20_L (SOP, 20-Leads, Body 8.7x4mm, Pitch 0.635mm, IPC High Density)
footprint LT-GN-20_M (SOP, 20-Leads, Body 8.7x4mm, Pitch 0.635mm, IPC Low Density)
pins: 1 12VIN (power) "12V Supply Input. A 0.5W switch is connected between 12VIN and 12VOUT with a foldback current limit. An undervoltage lockout circuit prevents the switches from turning on while the 12VIN pin voltage is less than 8.3V. 12VIN (See Datasheet)", 2 VEEIN (power) "-12V Supply Input. A 1W switch is connected between VEEIN and VEEOUT with a foldback current limit. If no VEE supply input is available, tie the VEEIN pin to the GND pin in order to disable the VEEOUT power good function.", 3 5VOUT (in) "5V Output Sense. The P\W\R\G\D\ pin will not pull low until the 5VOUT pin voltage exceeds 4.62V. If no 5V input supply is available, tie the 5VOUT pin to the 3VOUT pin in order to disable the 5VOUT power good function.", 4 TIMER (in) "Current Fault Inhibit Timing Input. Connect a capacitor from TIMER to GND. With the chip turned off (OFF/ON = HIGH), the TIMER pin is internally held at GND. When the chip is turned on, a 21mA pull-up current source is (See Datasheet)", 5 OFF/~{ON} (in) "Digital Input. Connect the CPCI BD_SEL# signal to the OFF/ON pin. When the OFF/O\N\ pin is pulled low, the GATE pin is pulled high by a 65mA current source and the internal 12V and -12V switches are turned on. When the (See Datasheet)", 6 ~{FAULT} (io) "Open-Drain Digital I/O. FAULT is pulled low when a current limit fault is detected. Current limit faults are ignored until the voltage at the TIMER pin is within 1V of 12VIN. Once the TIMER cycle is complete, FAULT will pull (See Datasheet)", 7 ~{PWRGD} (oc) "Open-Drain Digital Power Good Output. Connect the CPCI HEALTHY# signal to the PWRGD pin. PWRGD remains low while V12VOUT >= 11.1V, V3VOUT >= 2.9V, V5VOUT >=  4.62V and VEEOUT =< -10.5V. When any of the supplies falls below (See Datasheet)", 8 GND (power) "Chip Ground.", 9 ~{RESETIN} (in) "Digital Input. Connect the CPCI PCI_RST# signal to the RESETIN pin. Pulling RESETIN low will cause RESETOUT to pull low.", 10 ~{RESETOUT} (oc) "Open-Drain Digital Output. Connect the CPCI LOCAL_PCI_RST# signal to the RESETOUT pin. RESETOUT is the logical combination of RESETIN and PWRGD.", 11 DRIVE (out) "Precharge Base Drive Output. Provides base drive for an external NPN emitter-follower which in turn biases the PRECHARGE node.", 12 PRECHARGE (in) "Precharge Monitor Input. An onchip error amplifier servos the DRIVE pin voltage to keep the precharge node at 1V.", 13 5VIN (in) "5V Supply Sense Input. An undervoltage lockout circuit prevents the switches from turning on when the voltage at the 5VIN pin is less than 2.48V. If no 5V input supply is available, tie the 5VIN to the 3VIN pin.", 14 5VSENSE (in) "5V Current Limit Sense. With a sense resistor placed in the supply path between 5VIN and 5VSENSE, the GATE pin voltage will be adjusted to maintain a constant 51mV across the sense resistor and a constant current through the (See Datasheet)", 15 GATE (out) "High Side Gate Drive for the External 3.3V and 5V N-Channels pass transistors. Requires an external series RC network to compensate the current limit loop and set the minimum ramp-up rate.", 16 3VSENSE (in) "3.3V Current Limit Set. With a sense resistor placed in the supply path between 3VIN and 3VSENSE, the GATE pin voltage will be adjusted to maintain a constant 51mV across the sense resistor and a constant current through the (See Datasheet)", 17 3VIN (in) "3.3V Supply Sense Input. An undervoltage lockout circuit prevents the switches from turning on when the voltage at the 3VIN pin is less than 2.48V. If no 3.3V input supply is available, connect two series diodes between 5VIN (See Datasheet)", 18 3VOUT (in) "Analog Input used to monitor the 3.3V output supply voltage. The PWRGD pin cannot pull low until the 3VOUT pin voltage exceeds 2.9V. If no 3.3V input supply is available, tie the 3VOUT pin to the 5VOUT pin.", 19 VEEOUT (power) "-12V Supply Output. A 1W switch is connected between VEEIN and VEEOUT. VEEOUT must exceed -10.5V before the PWRGD pin pulls low unless the VEE PWRGD function is disabled by grounding the VEEIN pin.", 20 12VOUT (power) "12V Supply Output. A 0.5W switch is connected between 12VIN and 12VOUT. 12VOUT must exceed 11.1V before the PWRGD pin can pull low."

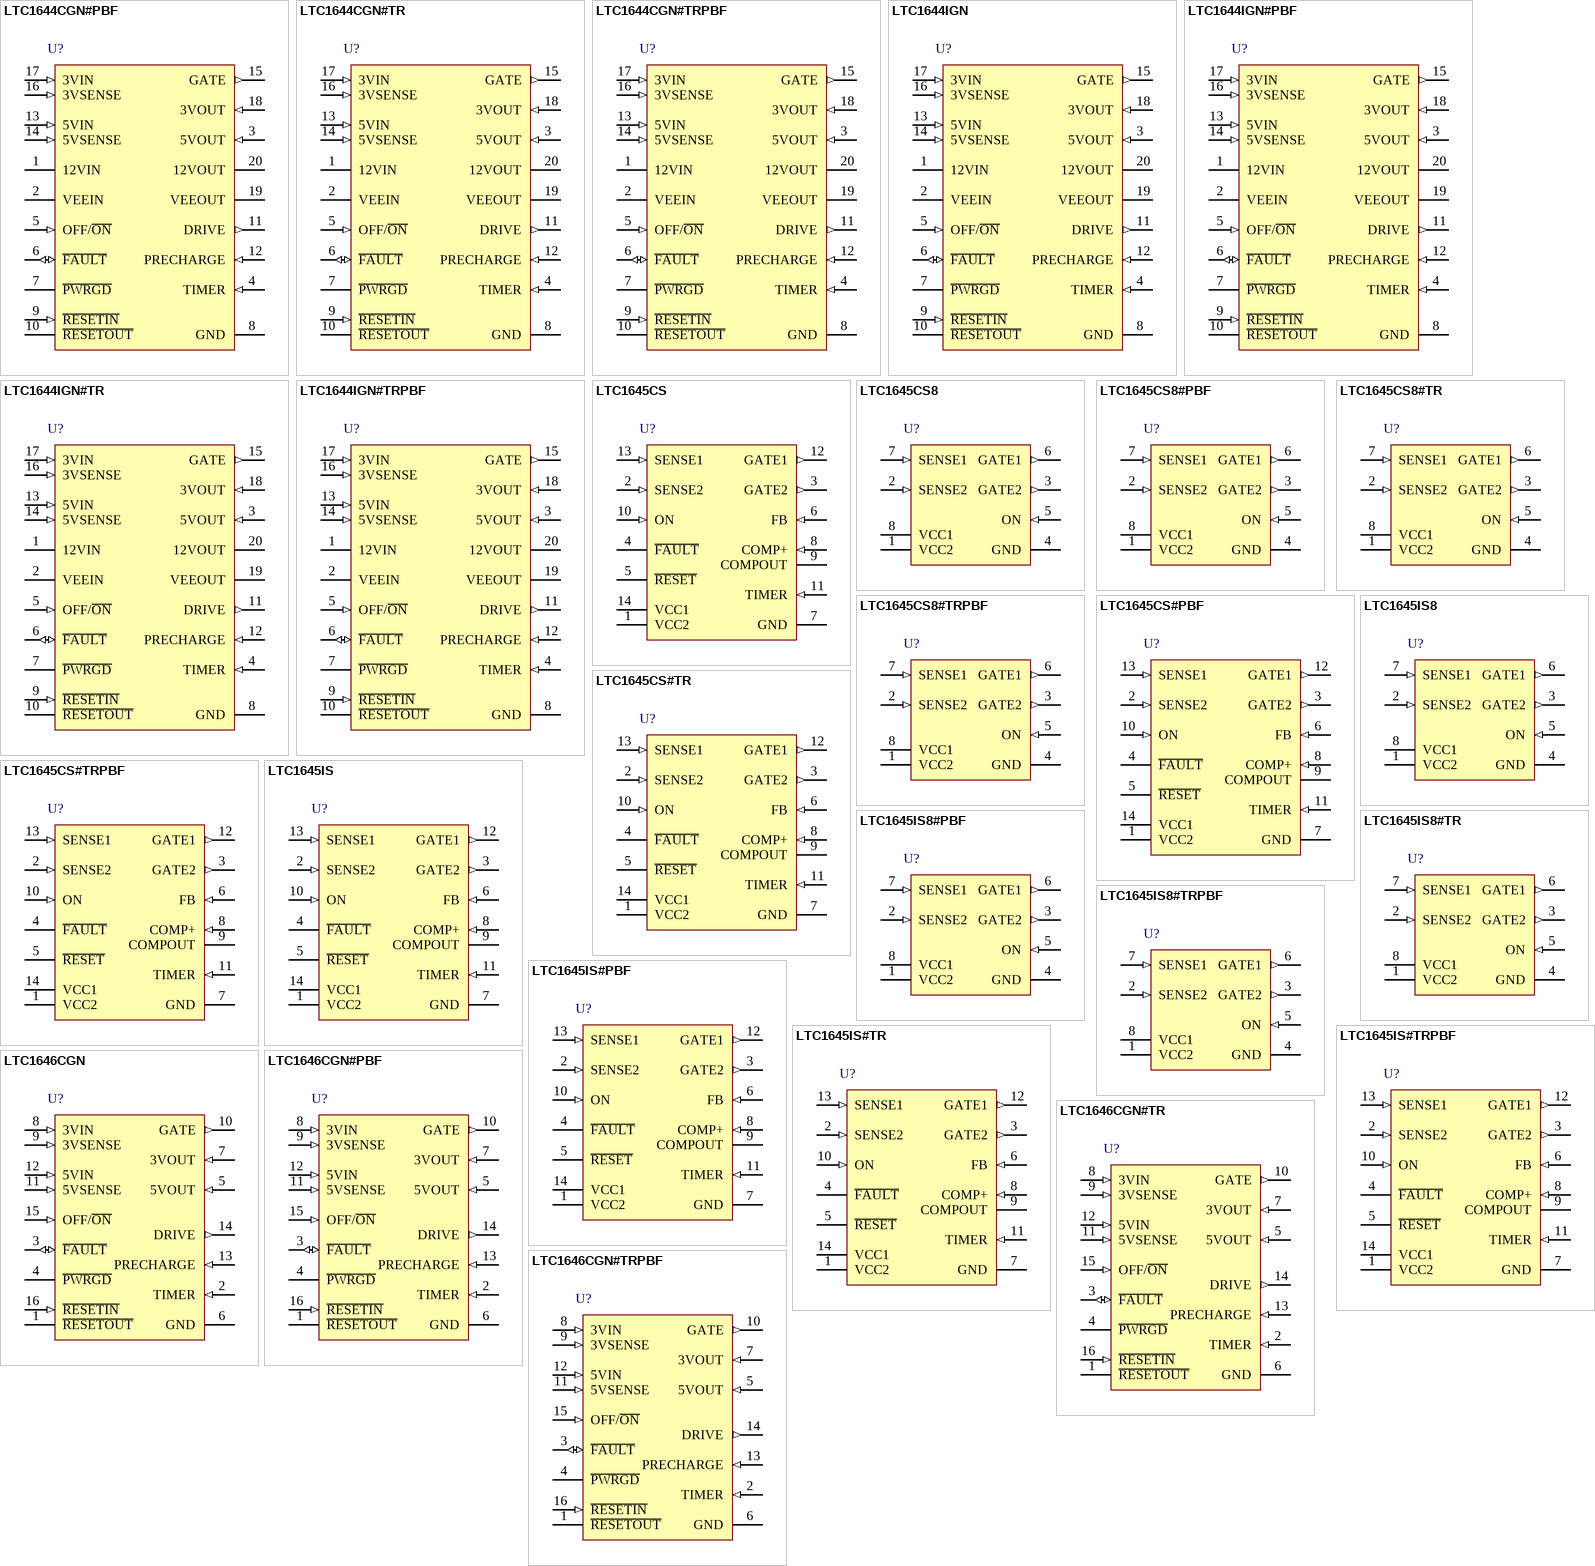
[diagram p10: symbols LTC1644CGN#PBF to LTC1646CGN#TRPBF]

## LTC1644CGN#PBF
designator U?
CompactPCI Bus Hot Swap Controller, 3.3 V, 5 V, +/-12 V Vin, 20-pin SOP (GN-20), 0 to 70 degC, Pb-Free; Manufacturer: Linear Technology; PartNumber: LTC1644CGN#PBF; Active Limiting: yes; Circuit Breaker Accuracy(%): 27; Circuit Breaker Threshold: 55 mV; Circuit Breakers(#): 4; Extended Temp: C, I; Fast Comparator: no; In-Rush Current: Active; PackageVersion: Rev. B, 03/2012; PackageReference: GN-20; PackageDescription: 20-Pin Plastic SSOP, Body 8.649 x 3.899 mm, Pitch 0.635 mm; Supplier 1: Digi-Key; Supplier Part Number 1: LTC1644CGN#PBF-ND; Supplier 2: Newark; Supplier Part Number 2: 56M2809; Fault: yes; Foldback: yes; Power Good: yes; Reset: no; RoHS: TRUE; Vin Range: 3.3 V, 5 V, +/-12 V; Mounting Technology: Surface Mount; ComponentLink1Description: Manufacturer URL; ComponentLink1URL: http://www.linear.com/; ComponentLink2Description: Datasheet; ComponentLink2URL: http://cds.linear.com/docs/en/datasheet/1644f.pdf; ComponentLink3Description: Package Specification; ComponentLink3URL: http://cds.linear.com/docs/en/packaging/05081641_B_GN20.pdf
footprint LT-GN-20_N (SOP, 20-Leads, Body 8.7x4mm, Pitch 0.635mm, IPC Medium Density)
footprint LT-GN-20_L (SOP, 20-Leads, Body 8.7x4mm, Pitch 0.635mm, IPC High Density)
footprint LT-GN-20_M (SOP, 20-Leads, Body 8.7x4mm, Pitch 0.635mm, IPC Low Density)
pins: 1 12VIN (power) "12V Supply Input. A 0.5W switch is connected between 12VIN and 12VOUT with a foldback current limit. An undervoltage lockout circuit prevents the switches from turning on while the 12VIN pin voltage is less than 8.3V. 12VIN (See Datasheet)", 2 VEEIN (power) "-12V Supply Input. A 1W switch is connected between VEEIN and VEEOUT with a foldback current limit. If no VEE supply input is available, tie the VEEIN pin to the GND pin in order to disable the VEEOUT power good function.", 3 5VOUT (in) "5V Output Sense. The P\W\R\G\D\ pin will not pull low until the 5VOUT pin voltage exceeds 4.62V. If no 5V input supply is available, tie the 5VOUT pin to the 3VOUT pin in order to disable the 5VOUT power good function.", 4 TIMER (in) "Current Fault Inhibit Timing Input. Connect a capacitor from TIMER to GND. With the chip turned off (OFF/ON = HIGH), the TIMER pin is internally held at GND. When the chip is turned on, a 21mA pull-up current source is (See Datasheet)", 5 OFF/~{ON} (in) "Digital Input. Connect the CPCI BD_SEL# signal to the OFF/ON pin. When the OFF/O\N\ pin is pulled low, the GATE pin is pulled high by a 65mA current source and the internal 12V and -12V switches are turned on. When the (See Datasheet)", 6 ~{FAULT} (io) "Open-Drain Digital I/O. FAULT is pulled low when a current limit fault is detected. Current limit faults are ignored until the voltage at the TIMER pin is within 1V of 12VIN. Once the TIMER cycle is complete, FAULT will pull (See Datasheet)", 7 ~{PWRGD} (oc) "Open-Drain Digital Power Good Output. Connect the CPCI HEALTHY# signal to the PWRGD pin. PWRGD remains low while V12VOUT >= 11.1V, V3VOUT >= 2.9V, V5VOUT >=  4.62V and VEEOUT =< -10.5V. When any of the supplies falls below (See Datasheet)", 8 GND (power) "Chip Ground.", 9 ~{RESETIN} (in) "Digital Input. Connect the CPCI PCI_RST# signal to the RESETIN pin. Pulling RESETIN low will cause RESETOUT to pull low.", 10 ~{RESETOUT} (oc) "Open-Drain Digital Output. Connect the CPCI LOCAL_PCI_RST# signal to the RESETOUT pin. RESETOUT is the logical combination of RESETIN and PWRGD.", 11 DRIVE (out) "Precharge Base Drive Output. Provides base drive for an external NPN emitter-follower which in turn biases the PRECHARGE node.", 12 PRECHARGE (in) "Precharge Monitor Input. An onchip error amplifier servos the DRIVE pin voltage to keep the precharge node at 1V.", 13 5VIN (in) "5V Supply Sense Input. An undervoltage lockout circuit prevents the switches from turning on when the voltage at the 5VIN pin is less than 2.48V. If no 5V input supply is available, tie the 5VIN to the 3VIN pin.", 14 5VSENSE (in) "5V Current Limit Sense. With a sense resistor placed in the supply path between 5VIN and 5VSENSE, the GATE pin voltage will be adjusted to maintain a constant 51mV across the sense resistor and a constant current through the (See Datasheet)", 15 GATE (out) "High Side Gate Drive for the External 3.3V and 5V N-Channels pass transistors. Requires an external series RC network to compensate the current limit loop and set the minimum ramp-up rate.", 16 3VSENSE (in) "3.3V Current Limit Set. With a sense resistor placed in the supply path between 3VIN and 3VSENSE, the GATE pin voltage will be adjusted to maintain a constant 51mV across the sense resistor and a constant current through the (See Datasheet)", 17 3VIN (in) "3.3V Supply Sense Input. An undervoltage lockout circuit prevents the switches from turning on when the voltage at the 3VIN pin is less than 2.48V. If no 3.3V input supply is available, connect two series diodes between 5VIN (See Datasheet)", 18 3VOUT (in) "Analog Input used to monitor the 3.3V output supply voltage. The PWRGD pin cannot pull low until the 3VOUT pin voltage exceeds 2.9V. If no 3.3V input supply is available, tie the 3VOUT pin to the 5VOUT pin.", 19 VEEOUT (power) "-12V Supply Output. A 1W switch is connected between VEEIN and VEEOUT. VEEOUT must exceed -10.5V before the PWRGD pin pulls low unless the VEE PWRGD function is disabled by grounding the VEEIN pin.", 20 12VOUT (power) "12V Supply Output. A 0.5W switch is connected between 12VIN and 12VOUT. 12VOUT must exceed 11.1V before the PWRGD pin can pull low."